# Altium footprint library HIGH AMP IGBT DRIVER.PcbLib: 48 footprints (part 3 of 3)
Each footprint in its own frame and in the unit in brackets; x right, y up, seen from the top. Pads: shape width x height; smd on the part's side, far side on the other; paste and mask are expansions set on the pad; w line width, h text height; cw(c..) or ccw(c..) is an arc to the next point about the centre after c.
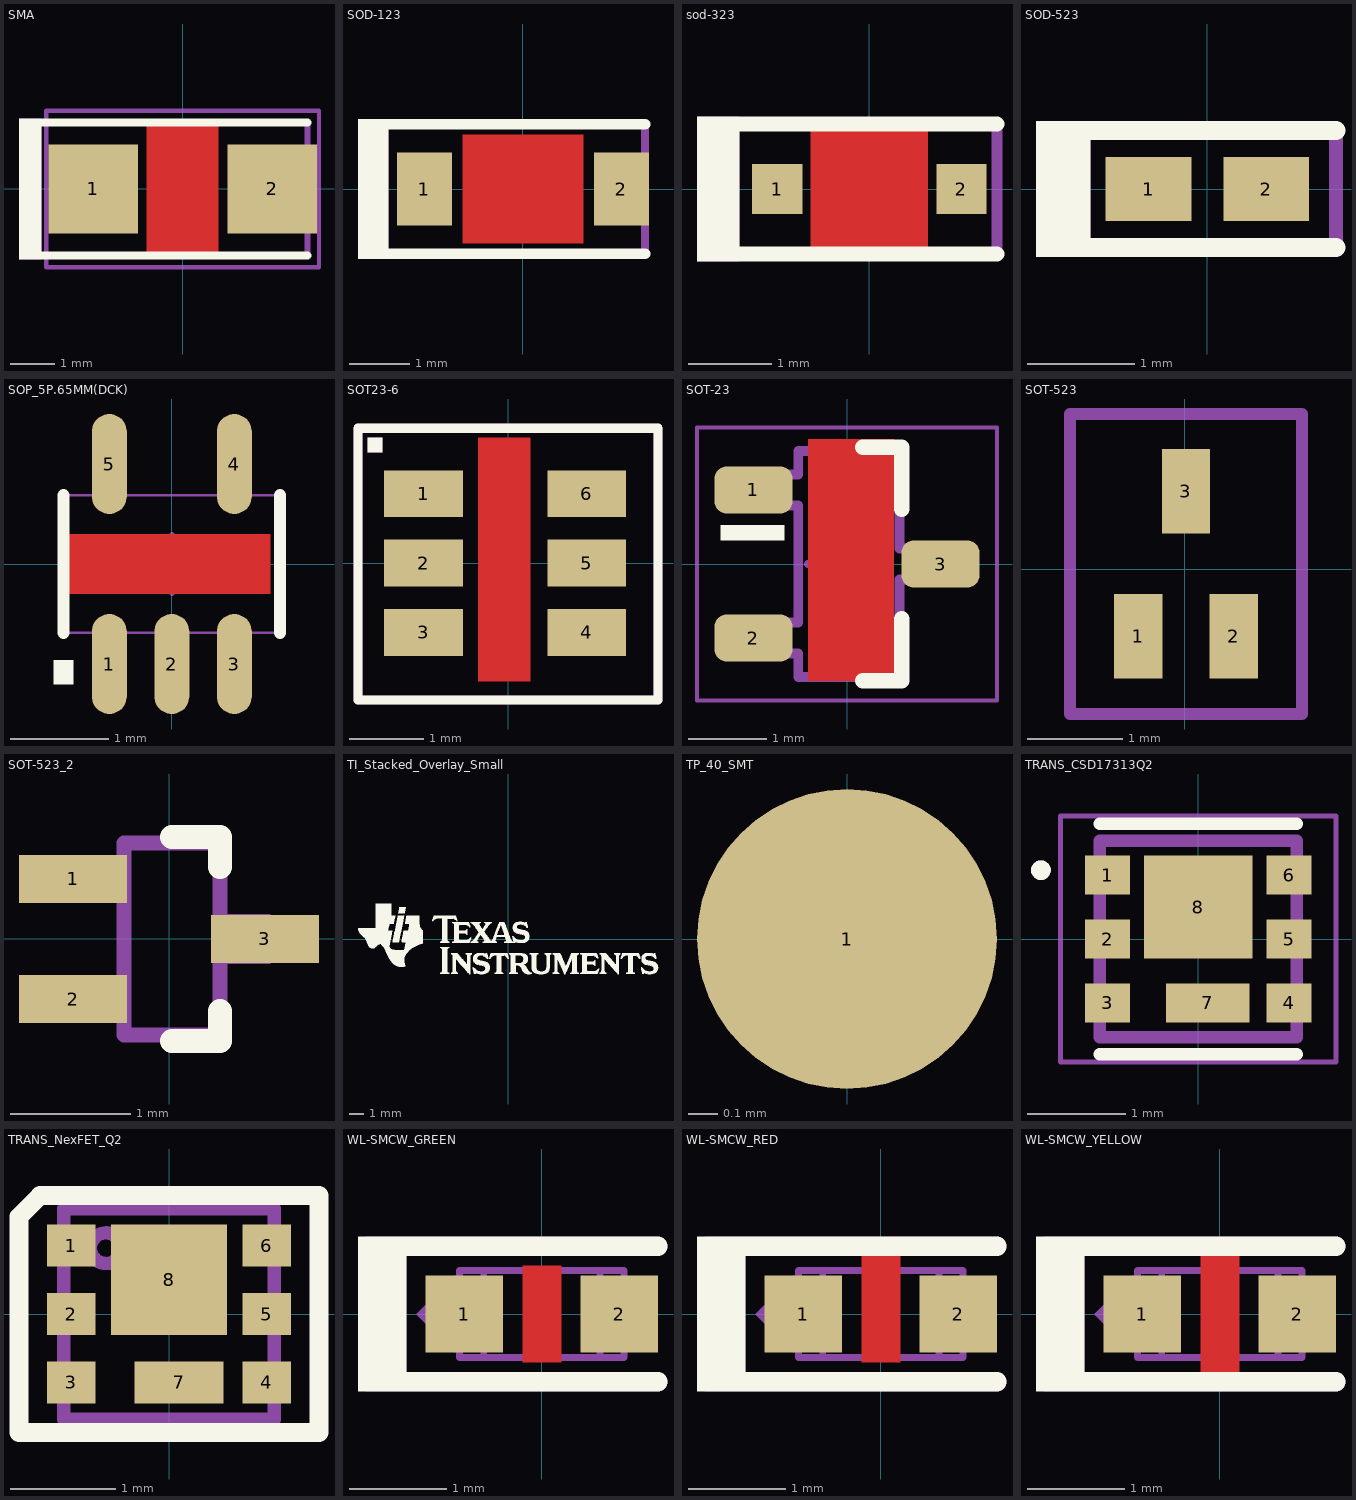
[diagram p2: the footprints below, top view; thin cyan lines are the x and y axes]

## SMA [mm]
pads (2):
  rect 2x2 smd: 1(-2,0) 2(2,0)
Top Layer:
  pour cut-out: -0.8,1.5 0.8,1.5 0.8,-1.4 -0.8,-1.4
Top Overlay:
  rectangle: -3.658,-1.575 -3.15,1.575
  lines w0.178: -3.327,-1.486 2.794,-1.486 ; -3.327,1.486 2.794,1.486
Top Assembly:
  rectangle: -3.658,-1.575 -3.15,1.575
  lines w0.127: -3.327,-1.486 2.794,-1.486 2.794,1.486 -3.327,1.486
  text ".Designator" at 0,-1.092 h0.76
Top Courtyard:
  lines w0.1: -3.05,-1.75 -3.05,1.75 3.05,1.75 3.05,-1.75 -3.05,-1.75
Top Component Center:
  lines w0.1: -0.5,0 0.5,0 ; 0,-0.5 0,0.5
3D body "SMA_nominal.stp": height 2.42, standoff 0.02, extent -2.6,-1.3 2.6,1.3

## SOD-123 [mm]
pads (2):
  rect 0.915x1.22 smd: 1(-1.637,0) 2(1.637,0)
Top Layer:
  pour cut-out: -1,0.9 1,0.9 1,-0.9 -1,-0.9
Top Overlay:
  rectangle: -2.743,-1.168 -2.235,1.168
  lines w0.178: -2.413,-1.079 2.032,-1.079 ; -2.413,1.079 2.032,1.079
Top Assembly:
  rectangle: -2.743,-1.168 -2.235,1.168
  lines w0.127: -2.413,-1.079 2.032,-1.079 2.032,1.079 -2.413,1.079
  text ".Designator" at -0.787,-0.483 h0.76
3D body "SOD-123.stp": height 1.35, standoff 0, extent -1.932,-0.9 1.932,0.9

## sod-323 [mm]
pads (2):
  rect 0.6x0.6 smd paste-0.05: 1(-1.1,0) 2(1.1,0)
Top Layer:
  pour cut-out: -0.7,0.8 0.7,0.8 0.7,-0.7 -0.7,-0.7
Top Overlay:
  rectangle: -2.057,-0.864 -1.549,0.864
  lines w0.178: -1.803,-0.775 0.1,-0.775 1.525,-0.775 ; -1.803,0.775 0.1,0.775 1.525,0.775
Top Assembly:
  rectangle: -2.057,-0.864 -1.549,0.864
  lines w0.127: -1.803,-0.775 0.1,-0.775 1.525,-0.775 1.525,0.775 0.1,0.775 -1.803,0.775
  text ".Designator" at -1.4,-0.275 h0.76
3D body "SOD-323.stp": height 1.1, standoff 0, extent -1.3,-0.675 1.3,0.675

## SOD-523 [mm]
pads (2):
  rect 0.8x0.6 smd paste-0.05: 1(-0.55,0) 2(0.55,0)
Top Overlay:
  rectangle: -1.6,-0.635 -1.092,0.635
  lines w0.178: -1.475,-0.546 0,-0.546 1.2,-0.546 ; -1.475,0.546 0,0.546 1.2,0.546
Top Assembly:
  rectangle: -1.6,-0.635 -1.092,0.635
  lines w0.127: -1.475,-0.546 0,-0.546 1.2,-0.546 1.2,0.546 0,0.546 -1.475,0.546
  text ".Designator" at -0.991,0.965 h0.76
3D body "SOD-523F.stp": height 0.72, standoff 0.02, extent -0.8,-0.399 0.8,0.399

## SOP_5P.65MM(DCK) [mil]
pads (5):
  oval 14x40 smd: 1(-25,-40) 2(0,-40) 3(25,-40) 4(25,40) 5(-25,40)
Top Layer:
  pour cut-out: -43.31,11.81 39.37,11.81 39.37,-11.81 -43.31,-11.81
Top Overlay:
  region: -47.24,-48.03 -39.37,-48.03 -39.37,-38.58 -47.24,-38.58
  lines w4.92: -43.31,-27.56 -43.31,27.56 ; 43.31,-27.56 43.31,27.56
Top Assembly:
  lines w1: -31.5,-33.46 -19.69,-33.46 ; -31.5,-27.56 -31.5,-45.28 -19.69,-45.28 -19.69,-27.56 ; -31.5,27.56 -31.5,45.28 -19.69,45.28 -19.69,27.56 ; -31.5,33.46 -19.69,33.46 ; -5.91,-33.46 5.91,-33.46 ; -5.91,-27.56 -5.91,-45.28 5.91,-45.28 5.91,-27.56 ; 19.69,-33.46 31.5,-33.46 ; 19.69,-27.56 19.69,-45.28 31.5,-45.28 31.5,-27.56 ; 19.69,27.56 19.69,45.28 31.5,45.28 31.5,27.56 ; 19.69,33.46 31.5,33.46 ; -42.32,-27.56 42.32,-27.56 42.32,27.56 -42.32,27.56 -42.32,-27.56
  text ".Designator" at 86.61,129.92 h30
  text "2" at -2.17,-42.37 h5
  text "3" at 23.42,-42.37 h5
  text "1" at -26.69,-42.37 h5
  text "4" at 23.3,36.37 h5
  text "5" at -27.76,36.37 h5
Top Component Center:
  lines w1.97: -11.81,0 11.81,0 ; 0,-11.81 0,11.81

## SOT23-6 [mil]
pads (6):
  rect 42x25 smd: 1(-45,37) 2(-45,0) 3(-45,-37) 4(42,-37) 5(42,0) 6(42,37)
Top Layer:
  pour cut-out: -15.75,66.93 11.81,66.93 11.81,-62.99 -15.75,-62.99
Top Overlay:
  rectangle: -74.8,59.06 -66.93,66.93
  lines w5: -80,-73 -80,72 80,72 80,-73 -80,-73
Top Assembly:
  rectangle: -74.8,59.06 -66.93,66.93
  lines w5: -80,-73 80,-73 80,72 -80,72 -80,-73
  text ".Designator" at -125.98,-11.81 h30

## SOT-23 [mm]
pads (3):
  rrect50% 1x0.6 smd: 1(-1.2,0.95) 2(-1.2,-0.95) 3(1.2,0)
Top Layer:
  pour cut-out: -0.5,1.6 0.6,1.6 0.6,-1.5 -0.5,-1.5
Top Overlay:
  rectangle: -1.625,0.3 -0.8,0.5
  lines w0.2: 0.2,-1.5 0.7,-1.5 0.7,-0.7 ; 0.2,1.5 0.7,1.5 0.7,0.7
Top Assembly:
  lines w0.127: -1.16,-1.15 -0.625,-1.15 -0.625,-1.45 0.675,-1.45 0.675,-0.2 1.21,-0.2 1.21,0.2 0.675,0.2 0.675,1.45 -0.625,1.45 -0.625,1.15 -1.16,1.15 -1.16,0.75 -0.625,0.75 -0.625,-0.75 -1.16,-0.75 -1.16,-1.15
  text ".Designator" at -0.432,0.432 h0.76
Top Courtyard:
  lines w0.05: -1.925,-1.75 -1.925,1.75 1.925,1.75 1.925,-1.75 -1.925,-1.75
Top Component Center:
  lines w0.1: -0.5,0 0.5,0 ; 0,-0.5 0,0.5
3D body "SW3dPS-sot-3p290x130ll237h100.STEP": height 1, standoff 0, extent -1.16,-1.45 1.21,1.45

## SOT-523 [mil]
pads (3):
  rect 20x35 smd: 1(-19.1,-27.8) 2(20.3,-27.8) 3(0.6,32.2)
Top Assembly:
  lines w5: -47.4,-59.9 48.6,-59.9 48.6,64.1 -47.4,64.1 -47.4,-59.9
  text ".Designator" at 15,-25 h30

## SOT-523_2 [mm]
pads (3):
  rect 0.9x0.4 smd: 1(-0.8,0.5) 2(-0.8,-0.5) 3(0.8,0)
Top Overlay:
  lines w0.2: 0.025,-0.85 0.425,-0.85 0.425,-0.6 ; 0.025,0.85 0.425,0.85 0.425,0.6
Top Assembly:
  lines w0.127: -0.375,-0.6 -0.375,-0.788 -0.375,-0.8 0.425,-0.8 0.425,-0.788 0.425,-0.144 ; -0.375,-0.6 -0.5,-0.6 -0.514,-0.6 -0.538,-0.6 -0.775,-0.6 -0.775,-0.4 -0.538,-0.4 -0.514,-0.4 -0.5,-0.4 -0.375,-0.4 ; -0.375,-0.6 -0.375,-0.4 ; -0.375,-0.4 -0.375,0.4 ; -0.375,0.4 -0.5,0.4 -0.514,0.4 -0.538,0.4 -0.775,0.4 -0.775,0.6 -0.538,0.6 -0.514,0.6 -0.5,0.6 -0.375,0.6 ; -0.375,0.4 -0.375,0.6 ; -0.375,0.6 -0.375,0.787 -0.375,0.8 0.425,0.8 0.425,0.787 0.425,0.144 ; 0.425,-0.144 0.55,-0.144 0.564,-0.144 0.588,-0.144 0.825,-0.144 0.825,0.144 0.588,0.144 0.564,0.144 0.55,0.144 0.425,0.144 ; 0.425,-0.144 0.425,0.144
  text ".Designator" at 0.533,1.956 h0.76
3D body "SOT-523.stp": height 0.79, standoff -0.01, extent -0.803,-0.8 0.797,0.8

## TI_Stacked_Overlay_Small [mm]
Top Overlay:
  drawing of 18 lines, arcs and shapes, not listed

## TP_40_SMT [mil]
pads (1):
  round 40 smd: 1(0,0)

## TRANS_CSD17313Q2 [mm]
pads (8):
  rect 0.455x0.4 smd paste-1: 1(-0.923,0.65) 2(-0.923,0) 3(-0.923,-0.65) 4(0.923,-0.65) 5(0.923,0) 6(0.923,0.65)
  rect 0.85x0.4 smd paste-0.05: 7(0.096,-0.65)
  rect 1.1x1.05 smd paste-0.05: 8(0,0.325)
Top Overlay:
  circle w0.1: c-1.6,0.7 r0.05
  lines w0.127: -1,-1.17 1,-1.17 ; -1,1.17 1,1.17
Top Paste:
  region: -0.75,-0.15 -1.09,-0.15 -1.09,0.15 -0.75,0.15
  region: -0.75,-0.8 -1.09,-0.8 -1.09,-0.5 -0.75,-0.5
  region: -0.75,0.5 -1.09,0.5 -1.09,0.8 -0.75,0.8
  region: 1.09,-0.15 0.75,-0.15 0.75,0.15 1.09,0.15
  region: 1.09,-0.8 0.75,-0.8 0.75,-0.5 1.09,-0.5
  region: 1.09,0.5 0.75,0.5 0.75,0.8 1.09,0.8
Mechanical 13:
  circle w0.1: c-1.6,0.7 r0.05
  lines w0.127: -1,-1 1,-1 1,1 -1,1 -1,-1
Mechanical 15:
  lines w0.05: -1.4,-1.25 1.4,-1.25 1.4,1.25 -1.4,1.25 -1.4,-1.25

## TRANS_NexFET_Q2 [mm]
pads (8):
  rect 0.46x0.4 smd mask+0.051: 1(-0.93,0.65) 2(-0.93,0) 3(-0.93,-0.65) 4(0.93,-0.65) 5(0.93,0) 6(0.93,0.65)
  rect 0.85x0.4 smd paste-0.025 mask+0.051: 7(0.095,-0.65)
  rect 1.1x1.05 smd paste-0.05: 8(0,0.325)
Top Overlay:
  lines w0.178: -1.425,-1.125 0,-1.125 1.425,-1.125 1.425,0 1.425,1.125 0,1.125 -1.225,1.125 -1.425,0.925 -1.425,0 -1.425,-1.125
Top Assembly:
  circle w0.127: c-0.6,0.625 r0.146
  lines w0.127: -1,-1 1,-1 1,1 -1,1 -1,-1
  text ".Designator" at 1.8,-0.4 h0.76
3D body "NexFET_Q2.stp": height 0.85, standoff 0, extent -1,-1 1.001,1

## WL-SMCW_GREEN [mm]
pads (2):
  rect 0.8x0.8 smd: 1(-0.8,0) 2(0.8,0)
Top Layer:
  pour cut-out: -0.2,0.5 0.2,0.5 0.2,-0.5 -0.2,-0.5
Top Overlay:
  rectangle: -1.9,-0.8 -1.4,0.8
  lines w0.2: -1.6,-0.7 1.2,-0.7 ; -1.6,0.7 1.2,0.7
Top 3D Body:
  lines w0.07: -0.6,-0.45 -0.6,0.45 ; 0.6,-0.45 0.6,0.45 ; -0.85,-0.45 -0.85,0.45 0.85,0.45 0.85,-0.45 -0.85,-0.45
Top Assembly:
  region: -0.9,-0.4 -0.9,0.4 -1.3,0
  lines w0.2: -1.65,-0.7 -1.65,0.55 ; 1.2,-0.7 -1.5,-0.7 ; 1.2,0.7 -1.5,0.7 ; -1.5,-0.7 -1.5,0.7 ; -1.5,-0.7 -1.8,-0.7 -1.8,0.7 -1.5,0.7
  text ".Designator" at -0.305,-0.483 h0.76
3D body: height 0.35, standoff 0, extent -0.849,-0.449 -0.601,0.449
3D body: height 0.35, standoff 0, extent -0.599,-0.449 0.599,0.449
3D body: height 0.35, standoff 0, extent 0.601,-0.449 0.849,0.449
3D body: height 0.8, standoff 0.35, extent -0.599,-0.449 0.599,0.449
3D body: height 0.36, standoff 0.35, extent -0.599,-0.449 0.599,0.449

## WL-SMCW_RED [mm]
pads (2):
  rect 0.8x0.8 smd: 1(-0.8,0) 2(0.8,0)
Top Layer:
  pour cut-out: -0.2,0.6 0.2,0.6 0.2,-0.5 -0.2,-0.5
Top Overlay:
  rectangle: -1.9,-0.8 -1.4,0.8
  lines w0.2: -1.6,-0.7 1.2,-0.7 ; -1.6,0.7 1.2,0.7
Top 3D Body:
  lines w0.07: -0.6,-0.45 -0.6,0.45 ; 0.6,-0.45 0.6,0.45 ; -0.85,-0.45 -0.85,0.45 0.85,0.45 0.85,-0.45 -0.85,-0.45
Top Assembly:
  region: -0.9,-0.4 -0.9,0.4 -1.3,0
  lines w0.2: -1.65,-0.7 -1.65,0.55 ; 1.2,-0.7 -1.5,-0.7 ; 1.2,0.7 -1.5,0.7 ; -1.5,-0.7 -1.5,0.7 ; -1.5,-0.7 -1.8,-0.7 -1.8,0.7 -1.5,0.7
  text ".Designator" at -0.711,-0.457 h0.76
3D body: height 0.35, standoff 0, extent -0.849,-0.449 -0.601,0.449
3D body: height 0.35, standoff 0, extent -0.599,-0.449 0.599,0.449
3D body: height 0.35, standoff 0, extent 0.601,-0.449 0.849,0.449
3D body: height 0.8, standoff 0.35, extent -0.599,-0.449 0.599,0.449
3D body: height 0.36, standoff 0.35, extent -0.599,-0.449 0.599,0.449

## WL-SMCW_YELLOW [mm]
pads (2):
  rect 0.8x0.8 smd: 1(-0.8,0) 2(0.8,0)
Top Layer:
  pour cut-out: -0.2,0.6 0.2,0.6 0.2,-0.6 -0.2,-0.6
Top Overlay:
  rectangle: -1.9,-0.8 -1.4,0.8
  lines w0.2: -1.6,-0.7 1.2,-0.7 ; -1.6,0.7 1.2,0.7
Top 3D Body:
  lines w0.07: -0.6,-0.45 -0.6,0.45 ; 0.6,-0.45 0.6,0.45 ; -0.85,-0.45 -0.85,0.45 0.85,0.45 0.85,-0.45 -0.85,-0.45
Top Assembly:
  region: -0.9,-0.4 -0.9,0.4 -1.3,0
  lines w0.2: -1.65,-0.7 -1.65,0.55 ; 1.2,-0.7 -1.5,-0.7 ; 1.2,0.7 -1.5,0.7 ; -1.5,-0.7 -1.5,0.7 ; -1.5,-0.7 -1.8,-0.7 -1.8,0.7 -1.5,0.7
  text ".Designator" at -0.635,-0.457 h0.76
3D body: height 0.36, standoff 0.35, extent -0.599,-0.449 0.599,0.449
3D body: height 0.35, standoff 0, extent -0.849,-0.449 -0.601,0.449
3D body: height 0.35, standoff 0, extent -0.599,-0.449 0.599,0.449
3D body: height 0.35, standoff 0, extent 0.601,-0.449 0.849,0.449
3D body: height 0.8, standoff 0.35, extent -0.599,-0.449 0.599,0.449